# Altium integrated library Relay12V30AAltium.IntLib: 1 symbol
Pins are listed as number, name and electrical type; pins without a type are passive.

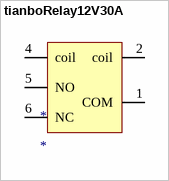
[diagram p0: symbol tianboRelay12V30A]

## tianboRelay12V30A
designator *
footprint Relay12V30AAltium
pins: 1 COM, 2 coil, 4 coil, 5 NO, 6 NC